# Altium footprint library CAPC1414X145L31N.PcbLib: 1 footprints
Each footprint in its own frame and in the unit in brackets; x right, y up, seen from the top. Pads: shape width x height; smd on the part's side, far side on the other; paste and mask are expansions set on the pad; w line width, h text height; cw(c..) or ccw(c..) is an arc to the next point about the centre after c.
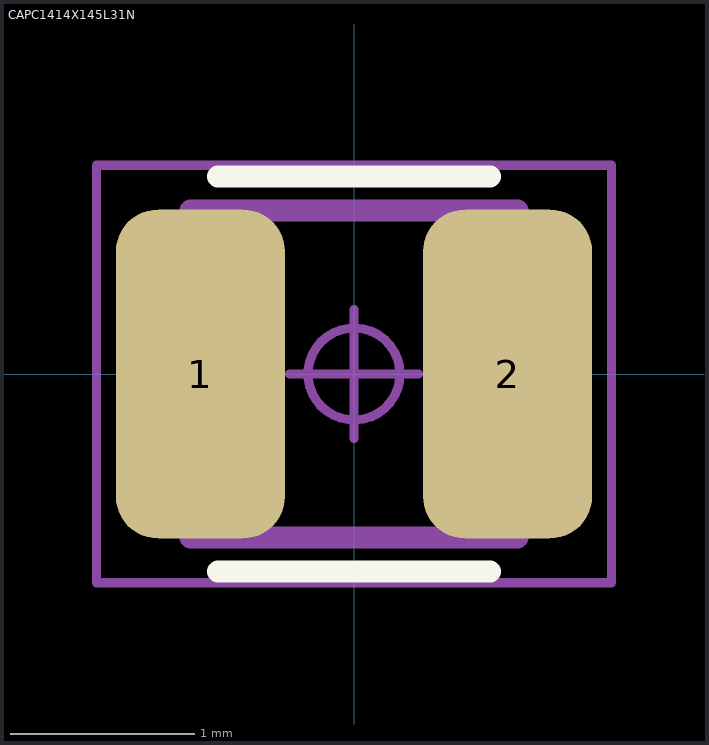
[diagram p0: the footprint, top view; thin cyan lines are the x and y axes]

## CAPC1414X145L31N [mm] "Capacitor, Chip; 1.465 mm L X 1.40 mm W X 1.45 mm H body"
height 1.45
pads (2):
  rrect50% 0.92x1.79 smd: 1(-0.835,0) 2(0.835,0)
Top Overlay:
  lines w0.12: -0.74,-1.075 0.74,-1.075 ; -0.74,1.075 0.74,1.075
Fab - Detail1, HDI1:
  lines w0.12: -0.89,-0.89 0.89,-0.89 0.89,0.89 -0.89,0.89 -0.89,-0.89
Courtyards/Models - Top:
  circle w0.05: c0,0 r0.25
  lines w0.05: -0.35,0 0.35,0 ; 0,-0.35 0,0.35 ; -1.4,-1.135 1.4,-1.135 1.4,1.135 -1.4,1.135 -1.4,-1.135